# EAGLE library part PIC24F04KA201 (library _RoweTel)
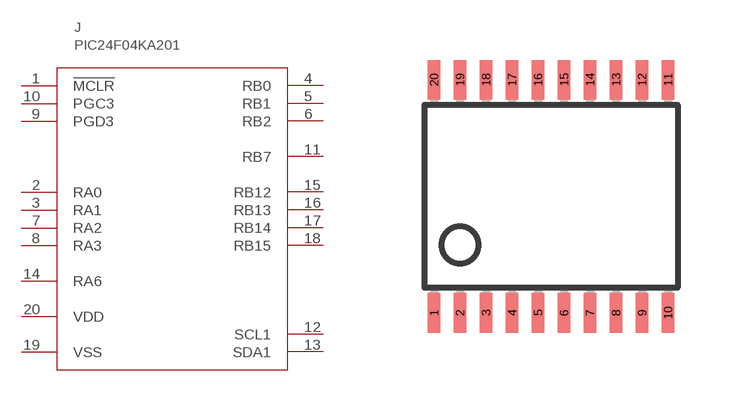
[diagram p52: symbol with the pads of TSSOP20; footprint TSSOP20]

Designator prefix J

## PIC24F04KA201  [TSSOP20]
1  !MCLR
2  RA0
3  RA1
4  RB0
5  RB1
6  RB2
7  RA2
8  RA3
9  PGD3
10  PGC3
11  RB7
12  SCL1
13  SDA1
14  RA6
15  RB12
16  RB13
17  RB14
18  RB15
19  VSS
20  VDD

## Footprint TSSOP20 (pad centres in mm)
smd 0.305 x 0.991: 1 -2.925,-2.918; 2 -2.275,-2.918; 3 -1.625,-2.918; 4 -0.975,-2.918; 5 -0.325,-2.918; 6 0.325,-2.918; 7 0.975,-2.918; 8 1.625,-2.918; 9 2.275,-2.918; 10 2.925,-2.918; 11 2.925,2.918; 12 2.275,2.918; 13 1.625,2.918; 14 0.975,2.918; 15 0.325,2.918; 16 -0.325,2.918; 17 -0.975,2.918; 18 -1.625,2.918; 19 -2.275,2.918; 20 -2.925,2.918